# Altium integrated library TI Amplifiers and Linear Special Function Amplifier.IntLib: 708 symbols (part 38 of 47)
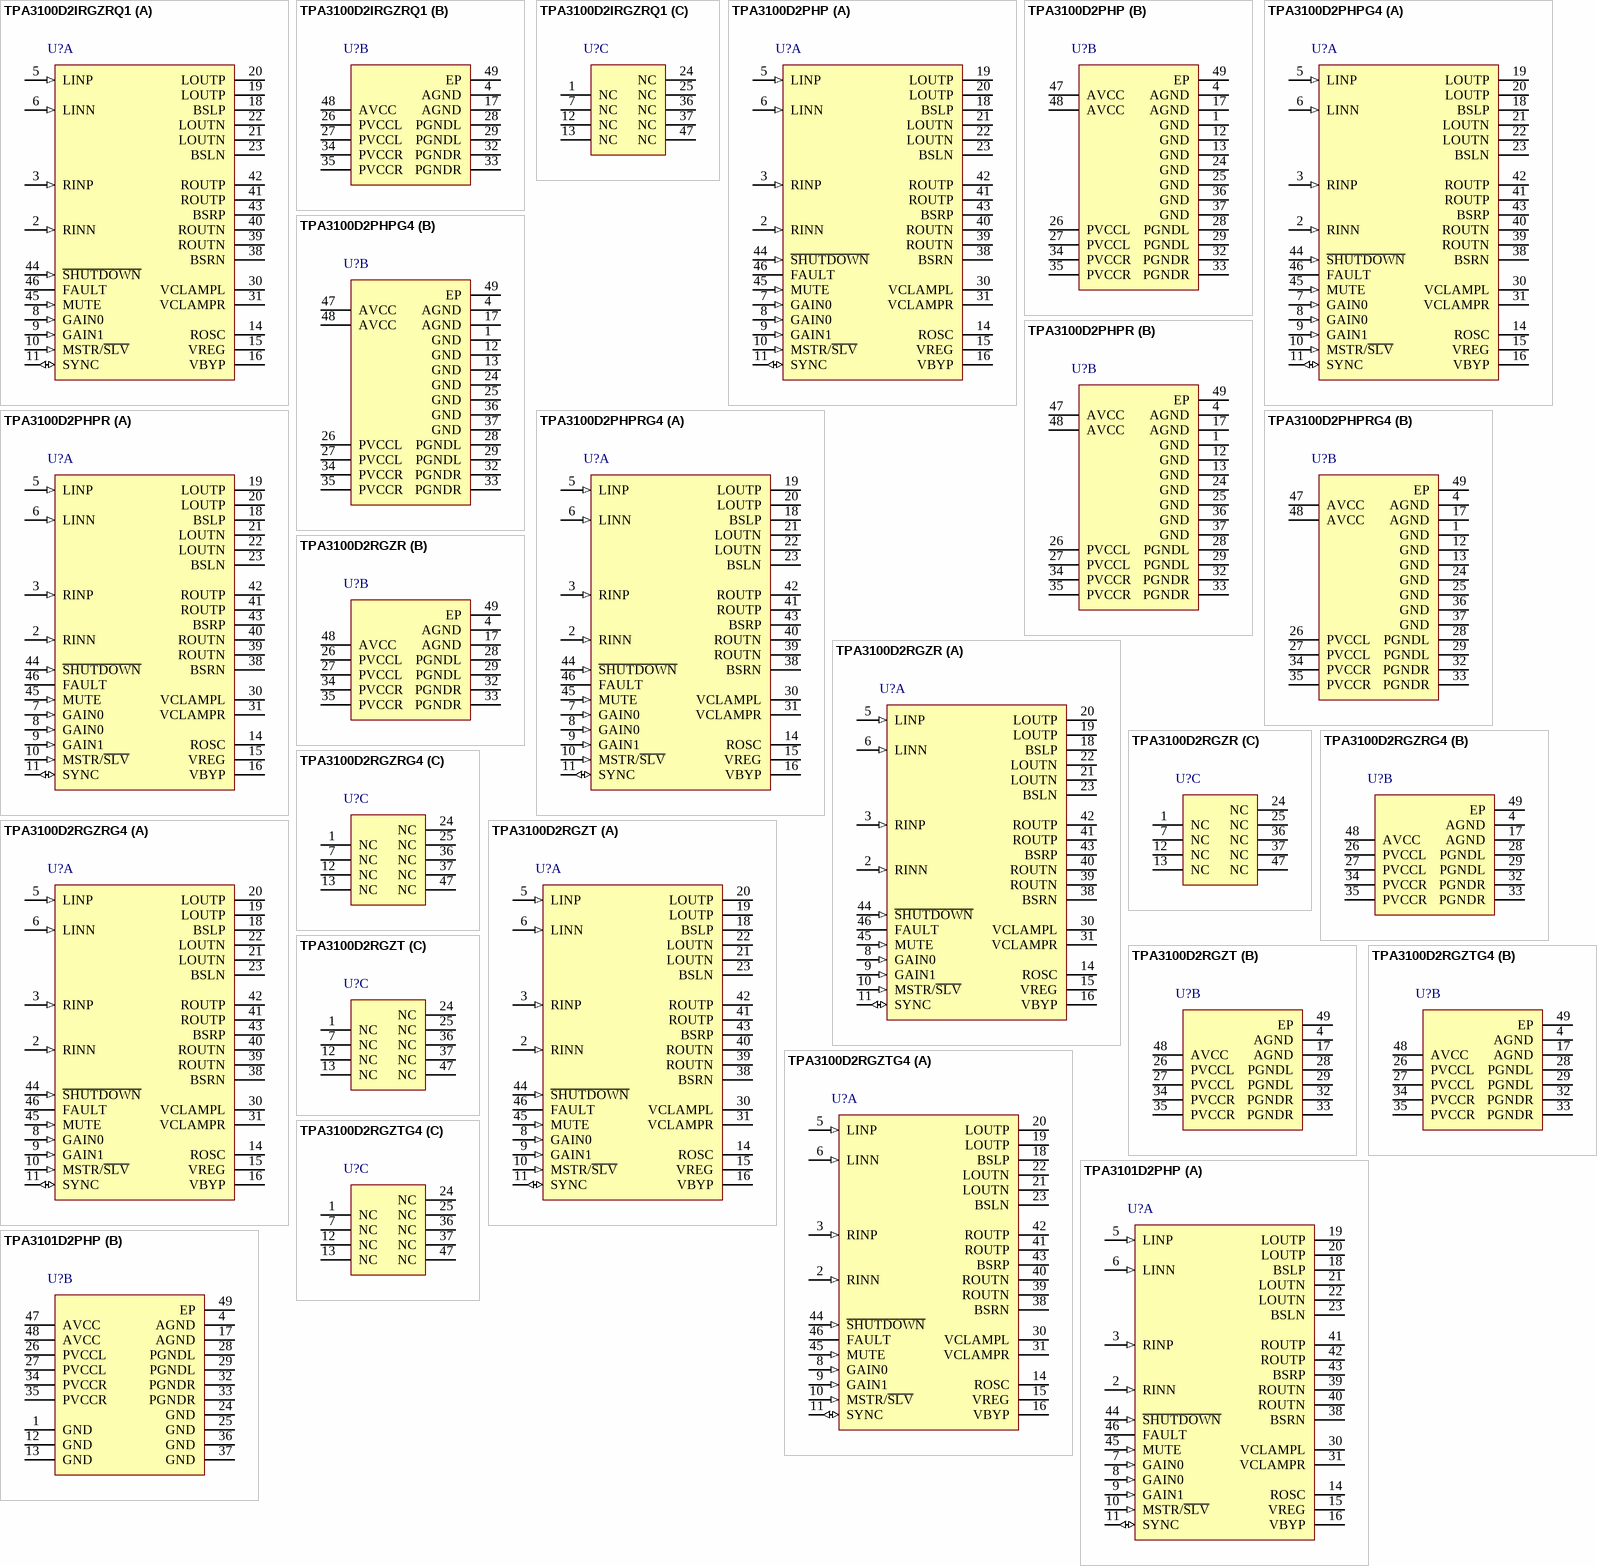
[diagram p76: symbols TPA3100D2IRGZRQ1 to TPA3101D2PHP]

## TPA3100D2RGZR
designator U?
20 W Stereo Class-D Audio Power Amplifier, -40 to 85 degC, 48-pin QFN (RGZ48), Green (RoHS & no Sb/Br); Manufacturer: Texas Instruments; PartNumber: TPA3100D2RGZR; Analog Supply Max [V]: 26; Analog Supply Min [V]: 10; Input Type: Analog; Max. Number of Speaker Outputs: 2; SubFamily: Mid/High-Power Amplifier; DatasheetVersion: SLOS469F; PackageVersion: 4204101/F, 06/2011; PackageReference: RGZ48-5150X5150TP; PackageDescription: 48-Pin Plastic Flat Pack, Body 7 x 7 mm, Pitch 0.5 mm; Supplier 1: Digi-Key; Supplier Part Number 1: 296-19423-2-ND; Supplier 2: Digi-Key; Supplier Part Number 2: 296-19423-1-ND; Supplier 3: Digi-Key; Supplier Part Number 3: 296-19423-6-ND; Supplier 4: Newark; Supplier Part Number 4: 72K0966; Supplier 5: Mouser; Supplier Part Number 5: 595-TPA3100D2RGZR; Eco-Plan: Green (RoHS & no Sb/Br); Power Stage Supply Min(V): 10; Mounting Technology: Surface Mount; Code_JEDEC: MO-220; ComponentLink1Description: Manufacturer URL; ComponentLink1URL: http://www.ti.com/; ComponentLink2Description: Datasheet; ComponentLink2URL: http://www.ti.com/general/docs/lit/getliterature.tsp?genericPartNumber=TPA3100D2&fileType=pdf; ComponentLink3Description: Package Specification; ComponentLink3URL: http://www.ti.com/lit/ml/mpqf123e/mpqf123e.pdf
footprint TI-RGZ48-5150X5150TP_V (QFN, 48-Leads, Body 7x7mm, Pitch 0.5mm, Thermal Pad 5.15x5.15mm, TI Recommended)
part A pins: 2 RINN (in) "Negative audio input for right channel. Biased at VREG/2.", 3 RINP (in) "Positive audio input for right channel. Biased at VREG/2.", 5 LINP (in) "Positive audio input for left channel. Biased at VREG/2.", 6 LINN (in) "Negative audio input for left channel. Biased at VREG/2.", 8 GAIN0 (in) "Gain select least significant bit. TTL logic levels with compliance to VREG.", 9 GAIN1 (in) "Gain select most significant bit. TTL logic levels with compliance to VREG.", 10 MSTR/~{SLV} (in) "Master/Slave select for determining direction of SYNC terminal. HIGH=Master mode, SYNC terminal is an output; LOW = slave mode, SYNC terminal accepts a clock input. TTL logic levels with compliance to VREG.", 11 SYNC (io) "Clock input/output for synchronizing multiple class-D devices. Direction determined by MSTR/S\L\V\ terminal. Input signal not to exceed VREG.", 14 ROSC "I/O for current setting resistor of ramp generator.", 15 VREG "4-V regulated output for use by internal cells, GAINx, MUTE, and MSTR/SLV pins only. Not specified for driving other external circuitry.", 16 VBYP "Reference for preamplifier. Nominally equal to 1.25 V. Also controls start-up time via external capacitor sizing.", 18 BSLP "Bootstrap I/O for left channel, positive high-side FET.", 19 LOUTP (hiz) "Class-D 1/2-H-bridge positive output for left channel.", 20 LOUTP (hiz) "Class-D 1/2-H-bridge positive output for left channel.", 21 LOUTN (hiz) "Class-D 1/2-H-bridge negative output for left channel.", 22 LOUTN (hiz) "Class-D 1/2-H-bridge negative output for left channel.", 23 BSLN "Bootstrap I/O for left channel, negative high-side FET.", 30 VCLAMPL "Internally generated voltage supply for left channel bootstrap capacitor.", 31 VCLAMPR "Internally generated voltage supply for right channel bootstrap capacitor.", 38 BSRN "Bootstrap I/O for right channel, negative high-side FET.", 39 ROUTN (hiz) "Class-D 1/2-H-bridge negative output for right channel.", 40 ROUTN (hiz) "Class-D 1/2-H-bridge negative output for right channel.", 41 ROUTP (hiz) "Class-D 1/2-H-bridge positive output for right channel.", 42 ROUTP (hiz) "Class-D 1/2-H-bridge positive output for right channel.", 43 BSRP "Bootstrap I/O for right channel, positive high-side FET.", 44 ~{SHUTDOWN} (in) "Shutdown signal for IC (LOW = disabled, HIGH = operational). TTL logic levels with compliance to AVCC.", 45 MUTE (in) "Mute signal for quick disable/enable of outputs (HIGH = outputs high-Z, LOW = outputs enabled). TTL logic levels with compliance to AVCC.", 46 FAULT (hiz) "TTL compatible output. HIGH = short-circuit fault. LOW = no fault. Only reports short-circuit faults. Thermal faults are not reported on this terminal."
part B pins: 4 AGND (power) "Analog ground for digital/analog cells in core.", 17 AGND (power) "Analog ground for digital/analog cells in core.", 26 PVCCL (power) "Power supply for left channel H-bridge, not internally connected to PVCCR or AVCC.", 27 PVCCL (power) "Power supply for left channel H-bridge, not internally connected to PVCCR or AVCC.", 28 PGNDL (power) "Power ground for left channel H-bridge.", 29 PGNDL (power) "Power ground for left channel H-bridge.", 32 PGNDR (power) "Power ground for right channel H-bridge.", 33 PGNDR (power) "Power ground for right channel H-bridge.", 34 PVCCR (power) "Power supply for right channel H-bridge, not connected to PVCCL or AVCC.", 35 PVCCR (power) "Power supply for right channel H-bridge, not connected to PVCCL or AVCC.", 48 AVCC (power) "High-voltage analog power supply. Not internally connected to PVCCR or PVCCL.", 49 EP (power) "Connect to AGND and PGND. Should be star point for both grounds. Internal resistive connection to AGND and PGND. Thermal vias on the PCB should connect this pad to a large copper area on an internal or bottom layer for the (See Datasheet)"
part C pins: 1 NC "No internal connection", 7 NC "No internal connection", 12 NC "No internal connection", 13 NC "No internal connection", 24 NC "No internal connection", 25 NC "No internal connection", 36 NC "No internal connection", 37 NC "No internal connection", 47 NC "No internal connection"

## TPA3100D2RGZRG4
designator U?
20 W Stereo Class-D Audio Power Amplifier, -40 to 85 degC, 48-pin QFN (RGZ48), Green (RoHS & no Sb/Br); Manufacturer: Texas Instruments; PartNumber: TPA3100D2RGZRG4; Analog Supply Max [V]: 26; Analog Supply Min [V]: 10; Input Type: Analog; Max. Number of Speaker Outputs: 2; SubFamily: Mid/High-Power Amplifier; DatasheetVersion: SLOS469F; PackageVersion: 4204101/F, 06/2011; PackageReference: RGZ48-5150X5150TP; PackageDescription: 48-Pin Plastic Flat Pack, Body 7 x 7 mm, Pitch 0.5 mm; Supplier 1: Digi-Key; Supplier Part Number 1: TPA3100D2RGZRG4-ND; Supplier 2: Mouser; Supplier Part Number 2: 595-TPA3100D2RGZRG4; Eco-Plan: Green (RoHS & no Sb/Br); Power Stage Supply Min(V): 10; Mounting Technology: Surface Mount; Code_JEDEC: MO-220; ComponentLink1Description: Manufacturer URL; ComponentLink1URL: http://www.ti.com/; ComponentLink2Description: Datasheet; ComponentLink2URL: http://www.ti.com/general/docs/lit/getliterature.tsp?genericPartNumber=TPA3100D2&fileType=pdf; ComponentLink3Description: Package Specification; ComponentLink3URL: http://www.ti.com/lit/ml/mpqf123e/mpqf123e.pdf
footprint TI-RGZ48-5150X5150TP_V (QFN, 48-Leads, Body 7x7mm, Pitch 0.5mm, Thermal Pad 5.15x5.15mm, TI Recommended)
part A pins: 2 RINN (in) "Negative audio input for right channel. Biased at VREG/2.", 3 RINP (in) "Positive audio input for right channel. Biased at VREG/2.", 5 LINP (in) "Positive audio input for left channel. Biased at VREG/2.", 6 LINN (in) "Negative audio input for left channel. Biased at VREG/2.", 8 GAIN0 (in) "Gain select least significant bit. TTL logic levels with compliance to VREG.", 9 GAIN1 (in) "Gain select most significant bit. TTL logic levels with compliance to VREG.", 10 MSTR/~{SLV} (in) "Master/Slave select for determining direction of SYNC terminal. HIGH=Master mode, SYNC terminal is an output; LOW = slave mode, SYNC terminal accepts a clock input. TTL logic levels with compliance to VREG.", 11 SYNC (io) "Clock input/output for synchronizing multiple class-D devices. Direction determined by MSTR/S\L\V\ terminal. Input signal not to exceed VREG.", 14 ROSC "I/O for current setting resistor of ramp generator.", 15 VREG "4-V regulated output for use by internal cells, GAINx, MUTE, and MSTR/SLV pins only. Not specified for driving other external circuitry.", 16 VBYP "Reference for preamplifier. Nominally equal to 1.25 V. Also controls start-up time via external capacitor sizing.", 18 BSLP "Bootstrap I/O for left channel, positive high-side FET.", 19 LOUTP (hiz) "Class-D 1/2-H-bridge positive output for left channel.", 20 LOUTP (hiz) "Class-D 1/2-H-bridge positive output for left channel.", 21 LOUTN (hiz) "Class-D 1/2-H-bridge negative output for left channel.", 22 LOUTN (hiz) "Class-D 1/2-H-bridge negative output for left channel.", 23 BSLN "Bootstrap I/O for left channel, negative high-side FET.", 30 VCLAMPL "Internally generated voltage supply for left channel bootstrap capacitor.", 31 VCLAMPR "Internally generated voltage supply for right channel bootstrap capacitor.", 38 BSRN "Bootstrap I/O for right channel, negative high-side FET.", 39 ROUTN (hiz) "Class-D 1/2-H-bridge negative output for right channel.", 40 ROUTN (hiz) "Class-D 1/2-H-bridge negative output for right channel.", 41 ROUTP (hiz) "Class-D 1/2-H-bridge positive output for right channel.", 42 ROUTP (hiz) "Class-D 1/2-H-bridge positive output for right channel.", 43 BSRP "Bootstrap I/O for right channel, positive high-side FET.", 44 ~{SHUTDOWN} (in) "Shutdown signal for IC (LOW = disabled, HIGH = operational). TTL logic levels with compliance to AVCC.", 45 MUTE (in) "Mute signal for quick disable/enable of outputs (HIGH = outputs high-Z, LOW = outputs enabled). TTL logic levels with compliance to AVCC.", 46 FAULT (hiz) "TTL compatible output. HIGH = short-circuit fault. LOW = no fault. Only reports short-circuit faults. Thermal faults are not reported on this terminal."
part B pins: 4 AGND (power) "Analog ground for digital/analog cells in core.", 17 AGND (power) "Analog ground for digital/analog cells in core.", 26 PVCCL (power) "Power supply for left channel H-bridge, not internally connected to PVCCR or AVCC.", 27 PVCCL (power) "Power supply for left channel H-bridge, not internally connected to PVCCR or AVCC.", 28 PGNDL (power) "Power ground for left channel H-bridge.", 29 PGNDL (power) "Power ground for left channel H-bridge.", 32 PGNDR (power) "Power ground for right channel H-bridge.", 33 PGNDR (power) "Power ground for right channel H-bridge.", 34 PVCCR (power) "Power supply for right channel H-bridge, not connected to PVCCL or AVCC.", 35 PVCCR (power) "Power supply for right channel H-bridge, not connected to PVCCL or AVCC.", 48 AVCC (power) "High-voltage analog power supply. Not internally connected to PVCCR or PVCCL.", 49 EP (power) "Connect to AGND and PGND. Should be star point for both grounds. Internal resistive connection to AGND and PGND. Thermal vias on the PCB should connect this pad to a large copper area on an internal or bottom layer for the (See Datasheet)"
part C pins: 1 NC "No internal connection", 7 NC "No internal connection", 12 NC "No internal connection", 13 NC "No internal connection", 24 NC "No internal connection", 25 NC "No internal connection", 36 NC "No internal connection", 37 NC "No internal connection", 47 NC "No internal connection"

## TPA3100D2RGZT
designator U?
20 W Stereo Class-D Audio Power Amplifier, -40 to 85 degC, 48-pin QFN (RGZ48), Green (RoHS & no Sb/Br); Manufacturer: Texas Instruments; PartNumber: TPA3100D2RGZT; Analog Supply Max [V]: 26; Analog Supply Min [V]: 10; Input Type: Analog; Max. Number of Speaker Outputs: 2; SubFamily: Mid/High-Power Amplifier; DatasheetVersion: SLOS469F; PackageVersion: 4204101/F, 06/2011; PackageReference: RGZ48-5150X5150TP; PackageDescription: 48-Pin Plastic Flat Pack, Body 7 x 7 mm, Pitch 0.5 mm; Supplier 1: Digi-Key; Supplier Part Number 1: 296-26882-2-ND; Supplier 2: Digi-Key; Supplier Part Number 2: 296-26882-1-ND; Supplier 3: Digi-Key; Supplier Part Number 3: 296-26882-6-ND; Supplier 4: Mouser; Supplier Part Number 4: 595-TPA3100D2RGZT; Eco-Plan: Green (RoHS & no Sb/Br); Power Stage Supply Min(V): 10; Mounting Technology: Surface Mount; Code_JEDEC: MO-220; ComponentLink1Description: Manufacturer URL; ComponentLink1URL: http://www.ti.com/; ComponentLink2Description: Datasheet; ComponentLink2URL: http://www.ti.com/general/docs/lit/getliterature.tsp?genericPartNumber=TPA3100D2&fileType=pdf; ComponentLink3Description: Package Specification; ComponentLink3URL: http://www.ti.com/lit/ml/mpqf123e/mpqf123e.pdf
footprint TI-RGZ48-5150X5150TP_V (QFN, 48-Leads, Body 7x7mm, Pitch 0.5mm, Thermal Pad 5.15x5.15mm, TI Recommended)
part A pins: 2 RINN (in) "Negative audio input for right channel. Biased at VREG/2.", 3 RINP (in) "Positive audio input for right channel. Biased at VREG/2.", 5 LINP (in) "Positive audio input for left channel. Biased at VREG/2.", 6 LINN (in) "Negative audio input for left channel. Biased at VREG/2.", 8 GAIN0 (in) "Gain select least significant bit. TTL logic levels with compliance to VREG.", 9 GAIN1 (in) "Gain select most significant bit. TTL logic levels with compliance to VREG.", 10 MSTR/~{SLV} (in) "Master/Slave select for determining direction of SYNC terminal. HIGH=Master mode, SYNC terminal is an output; LOW = slave mode, SYNC terminal accepts a clock input. TTL logic levels with compliance to VREG.", 11 SYNC (io) "Clock input/output for synchronizing multiple class-D devices. Direction determined by MSTR/S\L\V\ terminal. Input signal not to exceed VREG.", 14 ROSC "I/O for current setting resistor of ramp generator.", 15 VREG "4-V regulated output for use by internal cells, GAINx, MUTE, and MSTR/SLV pins only. Not specified for driving other external circuitry.", 16 VBYP "Reference for preamplifier. Nominally equal to 1.25 V. Also controls start-up time via external capacitor sizing.", 18 BSLP "Bootstrap I/O for left channel, positive high-side FET.", 19 LOUTP (hiz) "Class-D 1/2-H-bridge positive output for left channel.", 20 LOUTP (hiz) "Class-D 1/2-H-bridge positive output for left channel.", 21 LOUTN (hiz) "Class-D 1/2-H-bridge negative output for left channel.", 22 LOUTN (hiz) "Class-D 1/2-H-bridge negative output for left channel.", 23 BSLN "Bootstrap I/O for left channel, negative high-side FET.", 30 VCLAMPL "Internally generated voltage supply for left channel bootstrap capacitor.", 31 VCLAMPR "Internally generated voltage supply for right channel bootstrap capacitor.", 38 BSRN "Bootstrap I/O for right channel, negative high-side FET.", 39 ROUTN (hiz) "Class-D 1/2-H-bridge negative output for right channel.", 40 ROUTN (hiz) "Class-D 1/2-H-bridge negative output for right channel.", 41 ROUTP (hiz) "Class-D 1/2-H-bridge positive output for right channel.", 42 ROUTP (hiz) "Class-D 1/2-H-bridge positive output for right channel.", 43 BSRP "Bootstrap I/O for right channel, positive high-side FET.", 44 ~{SHUTDOWN} (in) "Shutdown signal for IC (LOW = disabled, HIGH = operational). TTL logic levels with compliance to AVCC.", 45 MUTE (in) "Mute signal for quick disable/enable of outputs (HIGH = outputs high-Z, LOW = outputs enabled). TTL logic levels with compliance to AVCC.", 46 FAULT (hiz) "TTL compatible output. HIGH = short-circuit fault. LOW = no fault. Only reports short-circuit faults. Thermal faults are not reported on this terminal."
part B pins: 4 AGND (power) "Analog ground for digital/analog cells in core.", 17 AGND (power) "Analog ground for digital/analog cells in core.", 26 PVCCL (power) "Power supply for left channel H-bridge, not internally connected to PVCCR or AVCC.", 27 PVCCL (power) "Power supply for left channel H-bridge, not internally connected to PVCCR or AVCC.", 28 PGNDL (power) "Power ground for left channel H-bridge.", 29 PGNDL (power) "Power ground for left channel H-bridge.", 32 PGNDR (power) "Power ground for right channel H-bridge.", 33 PGNDR (power) "Power ground for right channel H-bridge.", 34 PVCCR (power) "Power supply for right channel H-bridge, not connected to PVCCL or AVCC.", 35 PVCCR (power) "Power supply for right channel H-bridge, not connected to PVCCL or AVCC.", 48 AVCC (power) "High-voltage analog power supply. Not internally connected to PVCCR or PVCCL.", 49 EP (power) "Connect to AGND and PGND. Should be star point for both grounds. Internal resistive connection to AGND and PGND. Thermal vias on the PCB should connect this pad to a large copper area on an internal or bottom layer for the (See Datasheet)"
part C pins: 1 NC "No internal connection", 7 NC "No internal connection", 12 NC "No internal connection", 13 NC "No internal connection", 24 NC "No internal connection", 25 NC "No internal connection", 36 NC "No internal connection", 37 NC "No internal connection", 47 NC "No internal connection"

## TPA3100D2RGZTG4
designator U?
20 W Stereo Class-D Audio Power Amplifier, -40 to 85 degC, 48-pin QFN (RGZ48), Green (RoHS & no Sb/Br); Manufacturer: Texas Instruments; PartNumber: TPA3100D2RGZTG4; Analog Supply Max [V]: 26; Analog Supply Min [V]: 10; Input Type: Analog; Max. Number of Speaker Outputs: 2; SubFamily: Mid/High-Power Amplifier; DatasheetVersion: SLOS469F; PackageVersion: 4204101/F, 06/2011; PackageReference: RGZ48-5150X5150TP; PackageDescription: 48-Pin Plastic Flat Pack, Body 7 x 7 mm, Pitch 0.5 mm; Supplier 1: Digi-Key; Supplier Part Number 1: TPA3100D2RGZTG4-ND; Supplier 2: Mouser; Supplier Part Number 2: 595-TPA3100D2RGZTG4; Eco-Plan: Green (RoHS & no Sb/Br); Power Stage Supply Min(V): 10; Mounting Technology: Surface Mount; Code_JEDEC: MO-220; ComponentLink1Description: Manufacturer URL; ComponentLink1URL: http://www.ti.com/; ComponentLink2Description: Datasheet; ComponentLink2URL: http://www.ti.com/general/docs/lit/getliterature.tsp?genericPartNumber=TPA3100D2&fileType=pdf; ComponentLink3Description: Package Specification; ComponentLink3URL: http://www.ti.com/lit/ml/mpqf123e/mpqf123e.pdf
footprint TI-RGZ48-5150X5150TP_V (QFN, 48-Leads, Body 7x7mm, Pitch 0.5mm, Thermal Pad 5.15x5.15mm, TI Recommended)
part A pins: 2 RINN (in) "Negative audio input for right channel. Biased at VREG/2.", 3 RINP (in) "Positive audio input for right channel. Biased at VREG/2.", 5 LINP (in) "Positive audio input for left channel. Biased at VREG/2.", 6 LINN (in) "Negative audio input for left channel. Biased at VREG/2.", 8 GAIN0 (in) "Gain select least significant bit. TTL logic levels with compliance to VREG.", 9 GAIN1 (in) "Gain select most significant bit. TTL logic levels with compliance to VREG.", 10 MSTR/~{SLV} (in) "Master/Slave select for determining direction of SYNC terminal. HIGH=Master mode, SYNC terminal is an output; LOW = slave mode, SYNC terminal accepts a clock input. TTL logic levels with compliance to VREG.", 11 SYNC (io) "Clock input/output for synchronizing multiple class-D devices. Direction determined by MSTR/S\L\V\ terminal. Input signal not to exceed VREG.", 14 ROSC "I/O for current setting resistor of ramp generator.", 15 VREG "4-V regulated output for use by internal cells, GAINx, MUTE, and MSTR/SLV pins only. Not specified for driving other external circuitry.", 16 VBYP "Reference for preamplifier. Nominally equal to 1.25 V. Also controls start-up time via external capacitor sizing.", 18 BSLP "Bootstrap I/O for left channel, positive high-side FET.", 19 LOUTP (hiz) "Class-D 1/2-H-bridge positive output for left channel.", 20 LOUTP (hiz) "Class-D 1/2-H-bridge positive output for left channel.", 21 LOUTN (hiz) "Class-D 1/2-H-bridge negative output for left channel.", 22 LOUTN (hiz) "Class-D 1/2-H-bridge negative output for left channel.", 23 BSLN "Bootstrap I/O for left channel, negative high-side FET.", 30 VCLAMPL "Internally generated voltage supply for left channel bootstrap capacitor.", 31 VCLAMPR "Internally generated voltage supply for right channel bootstrap capacitor.", 38 BSRN "Bootstrap I/O for right channel, negative high-side FET.", 39 ROUTN (hiz) "Class-D 1/2-H-bridge negative output for right channel.", 40 ROUTN (hiz) "Class-D 1/2-H-bridge negative output for right channel.", 41 ROUTP (hiz) "Class-D 1/2-H-bridge positive output for right channel.", 42 ROUTP (hiz) "Class-D 1/2-H-bridge positive output for right channel.", 43 BSRP "Bootstrap I/O for right channel, positive high-side FET.", 44 ~{SHUTDOWN} (in) "Shutdown signal for IC (LOW = disabled, HIGH = operational). TTL logic levels with compliance to AVCC.", 45 MUTE (in) "Mute signal for quick disable/enable of outputs (HIGH = outputs high-Z, LOW = outputs enabled). TTL logic levels with compliance to AVCC.", 46 FAULT (hiz) "TTL compatible output. HIGH = short-circuit fault. LOW = no fault. Only reports short-circuit faults. Thermal faults are not reported on this terminal."
part B pins: 4 AGND (power) "Analog ground for digital/analog cells in core.", 17 AGND (power) "Analog ground for digital/analog cells in core.", 26 PVCCL (power) "Power supply for left channel H-bridge, not internally connected to PVCCR or AVCC.", 27 PVCCL (power) "Power supply for left channel H-bridge, not internally connected to PVCCR or AVCC.", 28 PGNDL (power) "Power ground for left channel H-bridge.", 29 PGNDL (power) "Power ground for left channel H-bridge.", 32 PGNDR (power) "Power ground for right channel H-bridge.", 33 PGNDR (power) "Power ground for right channel H-bridge.", 34 PVCCR (power) "Power supply for right channel H-bridge, not connected to PVCCL or AVCC.", 35 PVCCR (power) "Power supply for right channel H-bridge, not connected to PVCCL or AVCC.", 48 AVCC (power) "High-voltage analog power supply. Not internally connected to PVCCR or PVCCL.", 49 EP (power) "Connect to AGND and PGND. Should be star point for both grounds. Internal resistive connection to AGND and PGND. Thermal vias on the PCB should connect this pad to a large copper area on an internal or bottom layer for the (See Datasheet)"
part C pins: 1 NC "No internal connection", 7 NC "No internal connection", 12 NC "No internal connection", 13 NC "No internal connection", 24 NC "No internal connection", 25 NC "No internal connection", 36 NC "No internal connection", 37 NC "No internal connection", 47 NC "No internal connection"

## TPA3101D2PHP
designator U?
10 W Stereo Class-D Audio Power Amplifier, -40 to 85 degC, 48-pin QFP (PHP48), Green (RoHS & no Sb/Br); Manufacturer: Texas Instruments; PartNumber: TPA3101D2PHP; Analog Supply Max [V]: 26; Analog Supply Min [V]: 10; Input Type: Analog; Max. Number of Speaker Outputs: 2; SubFamily: Mid/High-Power Amplifier; DatasheetVersion: SLOS473C; PackageVersion: 4146927/B, 08/2003; PackageReference: PHP48-4520X4520TP; PackageDescription: 48-Pin PowerPAD(TM) Plastic Quad Flatpack, Body 7 x 7 mm, Pitch 0.5 mm; Supplier 1: Digi-Key; Supplier Part Number 1: 296-19554-ND; Supplier 2: Digi-Key; Supplier Part Number 2: 296-19554-2-ND; Supplier 3: Digi-Key; Supplier Part Number 3: 296-19554-6-ND; Supplier 4: Newark; Supplier Part Number 4: 80K3364; Supplier 5: Mouser; Supplier Part Number 5: 595-TPA3101D2PHP; Eco-Plan: Green (RoHS & no Sb/Br); Power Stage Supply Min(V): 10; Mounting Technology: Surface Mount; Code_JEDEC: MS-026; ComponentLink1Description: Manufacturer URL; ComponentLink1URL: http://www.ti.com/; ComponentLink2Description: Datasheet; ComponentLink2URL: http://www.ti.com/general/docs/lit/getliterature.tsp?genericPartNumber=TPA3101D2&fileType=pdf; ComponentLink3Description: Package Specification; ComponentLink3URL: http://www.ti.com/litv/pdf/mpqf051a
footprint TI-PHP48-4520X4520TP_N (QFP, 48-Leads, Body 7x7mm, Pitch 0.5mm, Thermal Pad 5.14x5.14mm, IPC Medium Density)
footprint TI-PHP48-4520X4520TP_L (QFP, 48-Leads, Body 7x7mm, Pitch 0.5mm, Thermal Pad 5.14x5.14mm, IPC High Density)
footprint TI-PHP48-4520X4520TP_M (QFP, 48-Leads, Body 7x7mm, Pitch 0.5mm, Thermal Pad 5.14x5.14mm, IPC Low Density)
part A pins: 2 RINN (in) "Negative audio input for right channel. Biased at VREG/2.", 3 RINP (in) "Positive audio input for right channel. Biased at VREG/2.", 5 LINP (in) "Positive audio input for left channel. Biased at VREG/2.", 6 LINN (in) "Negative audio input for left channel. Biased at VREG/2.", 7 GAIN0 (in) "Gain select least significant bit. TTL logic levels with compliance to VREG.", 8 GAIN0 (in) "Gain select least significant bit. TTL logic levels with compliance to VREG.", 9 GAIN1 (in) "Gain select least significant bit. TTL logic levels with compliance to VREG.", 10 MSTR/~{SLV} (in) "Master/Slave select for determining direction of SYNC terminal.HIGH=Master mode, SYNC terminal is an output; LOW = slave mode, SYNC terminal accepts a clock input. TTL logic levels with compliance to VREG.", 11 SYNC (io) "Clock input/output for synchronizing multiple class-D devices. Direction determined by MSTR/S\L\V\ terminal. Input signal not to exceed VREG", 14 ROSC "I/O for current setting resistor of ramp generator", 15 VREG "4-V regulated output for use by internal cells, GAINx, MUTE, and MSTR/S\L\V\ pins only. Not specified for driving other external circuitry.", 16 VBYP "Reference for preamplifier. Nominally equal to 1.25 V. Also controls start-up time via external capacitor sizing.", 18 BSLP "Bootstrap I/O for left channel, positive high-side FET.", 19 LOUTP (hiz) "Class-D 1/2-H-bridge positive output for left channel.", 20 LOUTP (hiz) "Class-D 1/2-H-bridge positive output for left channel.", 21 LOUTN (hiz) "Class-D 1/2-H-bridge negative output for left channel.", 22 LOUTN (hiz) "Class-D 1/2-H-bridge negative output for left channel.", 23 BSLN "Bootstrap I/O for left channel, negative high-side FET.", 30 VCLAMPL "Internally generated voltage supply for left channel bootstrap capacitor.", 31 VCLAMPR "Internally generated voltage supply for right channel bootstrap capacitor.", 38 BSRN "Bootstrap I/O for right channel, negative high-side FET.", 39 ROUTN (hiz) "Class-D 1/2-H-bridge negative output for right channel.", 40 ROUTN (hiz) "Class-D 1/2-H-bridge negative output for right channel.", 41 ROUTP (hiz) "Class-D 1/2-H-bridge positive output for right channel", 42 ROUTP (hiz) "Class-D 1/2-H-bridge positive output for right channel", 43 BSRP "Bootstrap I/O for right channel, positive high-side FET.", 44 ~{SHUTDOWN} (in) "Shutdown signal for IC (LOW = disabled, HIGH = operational). TTL logic levels with compliance to AVCC.", 45 MUTE (in) "Mute signal for quick disable/enable of outputs (HIGH = outputs high-Z, LOW = outputs enabled). TTL logic levels with compliance to AVCC.", 46 FAULT (hiz) "TTL compatible output. HIGH = short-circuit fault. LOW = no fault. Only reports short-circuit faults. Thermal faults are not reported on this terminal."
part B pins: 1 GND (power) "Connect to the thermal pad.", 4 AGND (power) "Analog ground for digital/analog cells in core.", 12 GND (power) "Connect to the thermal pad.", 13 GND (power) "Connect to the thermal pad.", 17 AGND (power) "Analog ground for digital/analog cells in core.", 24 GND (power) "Connect to the thermal pad.", 25 GND (power) "Connect to the thermal pad.", 26 PVCCL (power) "Power supply for left channel H-bridge, not internally connected to PVCCR or AVCC.", 27 PVCCL (power) "Power supply for left channel H-bridge, not internally connected to PVCCR or AVCC.", 28 PGNDL (power) "Power ground for left channel H-bridge.", 29 PGNDL (power) "Power ground for left channel H-bridge.", 32 PGNDR (power) "Power ground for right channel H-bridge.", 33 PGNDR (power) "Power ground for right channel H-bridge.", 34 PVCCR (power) "Power supply for right channel H-bridge, not connected to PVCCL or AVCC", 35 PVCCR (power) "Power supply for right channel H-bridge, not connected to PVCCL or AVCC", 36 GND (power) "Connect to the thermal pad.", 37 GND (power) "Connect to the thermal pad.", 47 AVCC (power) "High-voltage analog power supply. Not internally connected to PVCCR or PVCCL.", 48 AVCC (power) "High-voltage analog power supply. Not internally connected to PVCCR or PVCCL.", 49 EP (power) "Connect to AGND and PGND - should be star point for both grounds. Internal resistive connection to AGND and PGND. Thermal vias on the PCB should connect this pad to a large copper area on an internal or bottom layer for the (See Datasheet)"

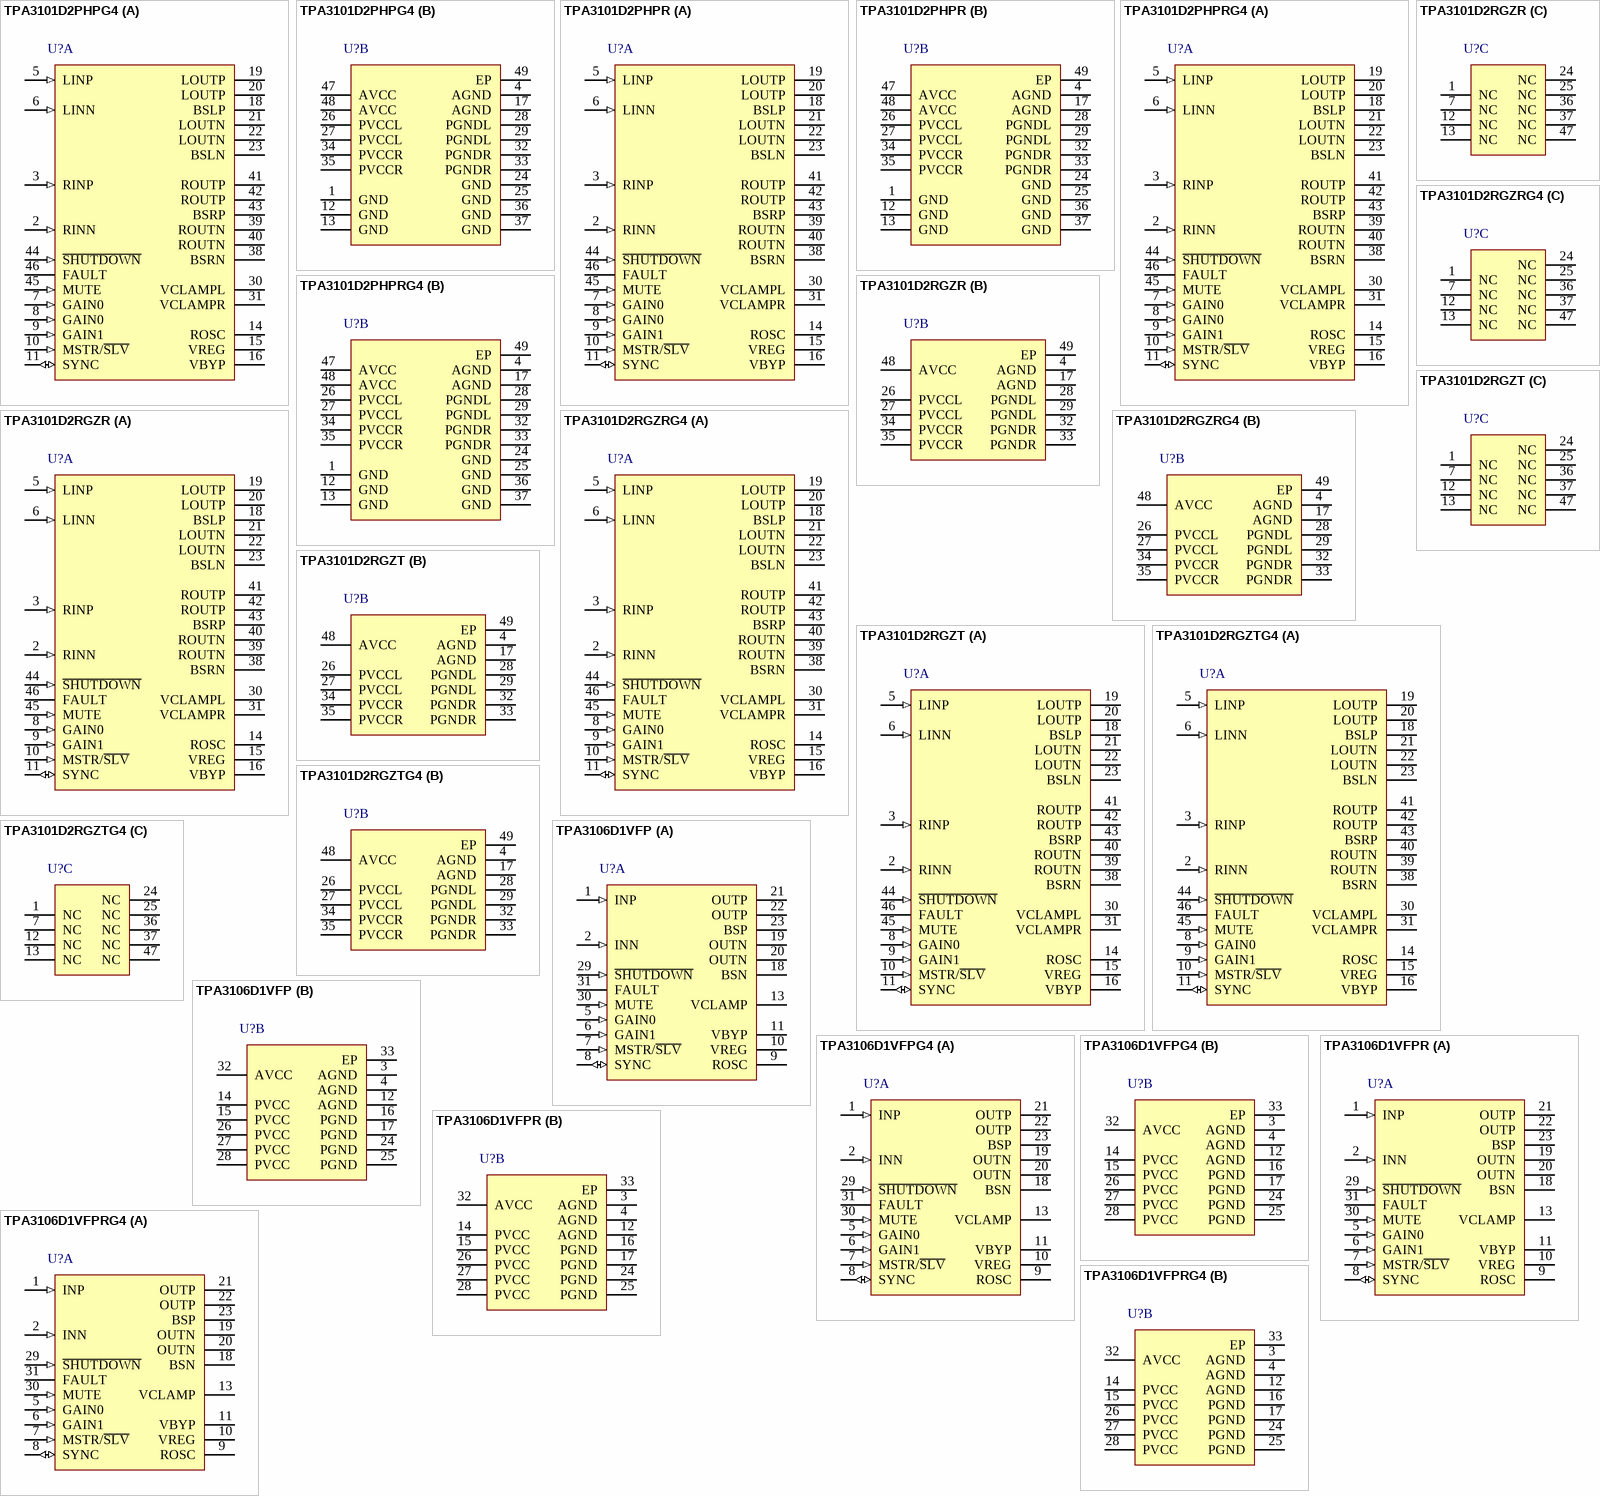
[diagram p33: symbols TPA3101D2PHPG4 to TPA3106D1VFPRG4]

## TPA3101D2PHPG4
designator U?
10 W Stereo Class-D Audio Power Amplifier, -40 to 85 degC, 48-pin QFP (PHP48), Green (RoHS & no Sb/Br); Manufacturer: Texas Instruments; PartNumber: TPA3101D2PHPG4; Analog Supply Max [V]: 26; Analog Supply Min [V]: 10; Input Type: Analog; Max. Number of Speaker Outputs: 2; SubFamily: Mid/High-Power Amplifier; DatasheetVersion: SLOS473C; PackageVersion: 4146927/B, 08/2003; PackageReference: PHP48-4520X4520TP; PackageDescription: 48-Pin PowerPAD(TM) Plastic Quad Flatpack, Body 7 x 7 mm, Pitch 0.5 mm; Supplier 1: Digi-Key; Supplier Part Number 1: TPA3101D2PHPG4-ND; Supplier 2: Mouser; Supplier Part Number 2: 595-TPA3101D2PHPG4; Eco-Plan: Green (RoHS & no Sb/Br); Power Stage Supply Min(V): 10; Mounting Technology: Surface Mount; Code_JEDEC: MS-026; ComponentLink1Description: Manufacturer URL; ComponentLink1URL: http://www.ti.com/; ComponentLink2Description: Datasheet; ComponentLink2URL: http://www.ti.com/general/docs/lit/getliterature.tsp?genericPartNumber=TPA3101D2&fileType=pdf; ComponentLink3Description: Package Specification; ComponentLink3URL: http://www.ti.com/litv/pdf/mpqf051a
footprint TI-PHP48-4520X4520TP_N (QFP, 48-Leads, Body 7x7mm, Pitch 0.5mm, Thermal Pad 5.14x5.14mm, IPC Medium Density)
footprint TI-PHP48-4520X4520TP_L (QFP, 48-Leads, Body 7x7mm, Pitch 0.5mm, Thermal Pad 5.14x5.14mm, IPC High Density)
footprint TI-PHP48-4520X4520TP_M (QFP, 48-Leads, Body 7x7mm, Pitch 0.5mm, Thermal Pad 5.14x5.14mm, IPC Low Density)
part A pins: 2 RINN (in) "Negative audio input for right channel. Biased at VREG/2.", 3 RINP (in) "Positive audio input for right channel. Biased at VREG/2.", 5 LINP (in) "Positive audio input for left channel. Biased at VREG/2.", 6 LINN (in) "Negative audio input for left channel. Biased at VREG/2.", 7 GAIN0 (in) "Gain select least significant bit. TTL logic levels with compliance to VREG.", 8 GAIN0 (in) "Gain select least significant bit. TTL logic levels with compliance to VREG.", 9 GAIN1 (in) "Gain select least significant bit. TTL logic levels with compliance to VREG.", 10 MSTR/~{SLV} (in) "Master/Slave select for determining direction of SYNC terminal.HIGH=Master mode, SYNC terminal is an output; LOW = slave mode, SYNC terminal accepts a clock input. TTL logic levels with compliance to VREG.", 11 SYNC (io) "Clock input/output for synchronizing multiple class-D devices. Direction determined by MSTR/S\L\V\ terminal. Input signal not to exceed VREG", 14 ROSC "I/O for current setting resistor of ramp generator", 15 VREG "4-V regulated output for use by internal cells, GAINx, MUTE, and MSTR/S\L\V\ pins only. Not specified for driving other external circuitry.", 16 VBYP "Reference for preamplifier. Nominally equal to 1.25 V. Also controls start-up time via external capacitor sizing.", 18 BSLP "Bootstrap I/O for left channel, positive high-side FET.", 19 LOUTP (hiz) "Class-D 1/2-H-bridge positive output for left channel.", 20 LOUTP (hiz) "Class-D 1/2-H-bridge positive output for left channel.", 21 LOUTN (hiz) "Class-D 1/2-H-bridge negative output for left channel.", 22 LOUTN (hiz) "Class-D 1/2-H-bridge negative output for left channel.", 23 BSLN "Bootstrap I/O for left channel, negative high-side FET.", 30 VCLAMPL "Internally generated voltage supply for left channel bootstrap capacitor.", 31 VCLAMPR "Internally generated voltage supply for right channel bootstrap capacitor.", 38 BSRN "Bootstrap I/O for right channel, negative high-side FET.", 39 ROUTN (hiz) "Class-D 1/2-H-bridge negative output for right channel.", 40 ROUTN (hiz) "Class-D 1/2-H-bridge negative output for right channel.", 41 ROUTP (hiz) "Class-D 1/2-H-bridge positive output for right channel", 42 ROUTP (hiz) "Class-D 1/2-H-bridge positive output for right channel", 43 BSRP "Bootstrap I/O for right channel, positive high-side FET.", 44 ~{SHUTDOWN} (in) "Shutdown signal for IC (LOW = disabled, HIGH = operational). TTL logic levels with compliance to AVCC.", 45 MUTE (in) "Mute signal for quick disable/enable of outputs (HIGH = outputs high-Z, LOW = outputs enabled). TTL logic levels with compliance to AVCC.", 46 FAULT (hiz) "TTL compatible output. HIGH = short-circuit fault. LOW = no fault. Only reports short-circuit faults. Thermal faults are not reported on this terminal."
part B pins: 1 GND (power) "Connect to the thermal pad.", 4 AGND (power) "Analog ground for digital/analog cells in core.", 12 GND (power) "Connect to the thermal pad.", 13 GND (power) "Connect to the thermal pad.", 17 AGND (power) "Analog ground for digital/analog cells in core.", 24 GND (power) "Connect to the thermal pad.", 25 GND (power) "Connect to the thermal pad.", 26 PVCCL (power) "Power supply for left channel H-bridge, not internally connected to PVCCR or AVCC.", 27 PVCCL (power) "Power supply for left channel H-bridge, not internally connected to PVCCR or AVCC.", 28 PGNDL (power) "Power ground for left channel H-bridge.", 29 PGNDL (power) "Power ground for left channel H-bridge.", 32 PGNDR (power) "Power ground for right channel H-bridge.", 33 PGNDR (power) "Power ground for right channel H-bridge.", 34 PVCCR (power) "Power supply for right channel H-bridge, not connected to PVCCL or AVCC", 35 PVCCR (power) "Power supply for right channel H-bridge, not connected to PVCCL or AVCC", 36 GND (power) "Connect to the thermal pad.", 37 GND (power) "Connect to the thermal pad.", 47 AVCC (power) "High-voltage analog power supply. Not internally connected to PVCCR or PVCCL.", 48 AVCC (power) "High-voltage analog power supply. Not internally connected to PVCCR or PVCCL.", 49 EP (power) "Connect to AGND and PGND - should be star point for both grounds. Internal resistive connection to AGND and PGND. Thermal vias on the PCB should connect this pad to a large copper area on an internal or bottom layer for the (See Datasheet)"

## TPA3101D2PHPR
designator U?
10 W Stereo Class-D Audio Power Amplifier, -40 to 85 degC, 48-pin QFP (PHP48), Green (RoHS & no Sb/Br); Manufacturer: Texas Instruments; PartNumber: TPA3101D2PHPR; Analog Supply Max [V]: 26; Analog Supply Min [V]: 10; Input Type: Analog; Max. Number of Speaker Outputs: 2; SubFamily: Mid/High-Power Amplifier; DatasheetVersion: SLOS473C; PackageVersion: 4146927/B, 08/2003; PackageReference: PHP48-4520X4520TP; PackageDescription: 48-Pin PowerPAD(TM) Plastic Quad Flatpack, Body 7 x 7 mm, Pitch 0.5 mm; Supplier 1: Digi-Key; Supplier Part Number 1: 296-26883-2-ND; Supplier 2: Digi-Key; Supplier Part Number 2: 296-26883-1-ND; Supplier 3: Digi-Key; Supplier Part Number 3: 296-26883-6-ND; Supplier 4: Mouser; Supplier Part Number 4: 595-TPA3101D2PHPR; Eco-Plan: Green (RoHS & no Sb/Br); Power Stage Supply Min(V): 10; Mounting Technology: Surface Mount; Code_JEDEC: MS-026; ComponentLink1Description: Manufacturer URL; ComponentLink1URL: http://www.ti.com/; ComponentLink2Description: Datasheet; ComponentLink2URL: http://www.ti.com/general/docs/lit/getliterature.tsp?genericPartNumber=TPA3101D2&fileType=pdf; ComponentLink3Description: Package Specification; ComponentLink3URL: http://www.ti.com/litv/pdf/mpqf051a
footprint TI-PHP48-4520X4520TP_N (QFP, 48-Leads, Body 7x7mm, Pitch 0.5mm, Thermal Pad 5.14x5.14mm, IPC Medium Density)
footprint TI-PHP48-4520X4520TP_L (QFP, 48-Leads, Body 7x7mm, Pitch 0.5mm, Thermal Pad 5.14x5.14mm, IPC High Density)
footprint TI-PHP48-4520X4520TP_M (QFP, 48-Leads, Body 7x7mm, Pitch 0.5mm, Thermal Pad 5.14x5.14mm, IPC Low Density)
part A pins: 2 RINN (in) "Negative audio input for right channel. Biased at VREG/2.", 3 RINP (in) "Positive audio input for right channel. Biased at VREG/2.", 5 LINP (in) "Positive audio input for left channel. Biased at VREG/2.", 6 LINN (in) "Negative audio input for left channel. Biased at VREG/2.", 7 GAIN0 (in) "Gain select least significant bit. TTL logic levels with compliance to VREG.", 8 GAIN0 (in) "Gain select least significant bit. TTL logic levels with compliance to VREG.", 9 GAIN1 (in) "Gain select least significant bit. TTL logic levels with compliance to VREG.", 10 MSTR/~{SLV} (in) "Master/Slave select for determining direction of SYNC terminal.HIGH=Master mode, SYNC terminal is an output; LOW = slave mode, SYNC terminal accepts a clock input. TTL logic levels with compliance to VREG.", 11 SYNC (io) "Clock input/output for synchronizing multiple class-D devices. Direction determined by MSTR/S\L\V\ terminal. Input signal not to exceed VREG", 14 ROSC "I/O for current setting resistor of ramp generator", 15 VREG "4-V regulated output for use by internal cells, GAINx, MUTE, and MSTR/S\L\V\ pins only. Not specified for driving other external circuitry.", 16 VBYP "Reference for preamplifier. Nominally equal to 1.25 V. Also controls start-up time via external capacitor sizing.", 18 BSLP "Bootstrap I/O for left channel, positive high-side FET.", 19 LOUTP (hiz) "Class-D 1/2-H-bridge positive output for left channel.", 20 LOUTP (hiz) "Class-D 1/2-H-bridge positive output for left channel.", 21 LOUTN (hiz) "Class-D 1/2-H-bridge negative output for left channel.", 22 LOUTN (hiz) "Class-D 1/2-H-bridge negative output for left channel.", 23 BSLN "Bootstrap I/O for left channel, negative high-side FET.", 30 VCLAMPL "Internally generated voltage supply for left channel bootstrap capacitor.", 31 VCLAMPR "Internally generated voltage supply for right channel bootstrap capacitor.", 38 BSRN "Bootstrap I/O for right channel, negative high-side FET.", 39 ROUTN (hiz) "Class-D 1/2-H-bridge negative output for right channel.", 40 ROUTN (hiz) "Class-D 1/2-H-bridge negative output for right channel.", 41 ROUTP (hiz) "Class-D 1/2-H-bridge positive output for right channel", 42 ROUTP (hiz) "Class-D 1/2-H-bridge positive output for right channel", 43 BSRP "Bootstrap I/O for right channel, positive high-side FET.", 44 ~{SHUTDOWN} (in) "Shutdown signal for IC (LOW = disabled, HIGH = operational). TTL logic levels with compliance to AVCC.", 45 MUTE (in) "Mute signal for quick disable/enable of outputs (HIGH = outputs high-Z, LOW = outputs enabled). TTL logic levels with compliance to AVCC.", 46 FAULT (hiz) "TTL compatible output. HIGH = short-circuit fault. LOW = no fault. Only reports short-circuit faults. Thermal faults are not reported on this terminal."
part B pins: 1 GND (power) "Connect to the thermal pad.", 4 AGND (power) "Analog ground for digital/analog cells in core.", 12 GND (power) "Connect to the thermal pad.", 13 GND (power) "Connect to the thermal pad.", 17 AGND (power) "Analog ground for digital/analog cells in core.", 24 GND (power) "Connect to the thermal pad.", 25 GND (power) "Connect to the thermal pad.", 26 PVCCL (power) "Power supply for left channel H-bridge, not internally connected to PVCCR or AVCC.", 27 PVCCL (power) "Power supply for left channel H-bridge, not internally connected to PVCCR or AVCC.", 28 PGNDL (power) "Power ground for left channel H-bridge.", 29 PGNDL (power) "Power ground for left channel H-bridge.", 32 PGNDR (power) "Power ground for right channel H-bridge.", 33 PGNDR (power) "Power ground for right channel H-bridge.", 34 PVCCR (power) "Power supply for right channel H-bridge, not connected to PVCCL or AVCC", 35 PVCCR (power) "Power supply for right channel H-bridge, not connected to PVCCL or AVCC", 36 GND (power) "Connect to the thermal pad.", 37 GND (power) "Connect to the thermal pad.", 47 AVCC (power) "High-voltage analog power supply. Not internally connected to PVCCR or PVCCL.", 48 AVCC (power) "High-voltage analog power supply. Not internally connected to PVCCR or PVCCL.", 49 EP (power) "Connect to AGND and PGND - should be star point for both grounds. Internal resistive connection to AGND and PGND. Thermal vias on the PCB should connect this pad to a large copper area on an internal or bottom layer for the (See Datasheet)"

## TPA3101D2PHPRG4
designator U?
10 W Stereo Class-D Audio Power Amplifier, -40 to 85 degC, 48-pin QFP (PHP48), Green (RoHS & no Sb/Br); Manufacturer: Texas Instruments; PartNumber: TPA3101D2PHPRG4; Analog Supply Max [V]: 26; Analog Supply Min [V]: 10; Input Type: Analog; Max. Number of Speaker Outputs: 2; SubFamily: Mid/High-Power Amplifier; DatasheetVersion: SLOS473C; PackageVersion: 4146927/B, 08/2003; PackageReference: PHP48-4520X4520TP; PackageDescription: 48-Pin PowerPAD(TM) Plastic Quad Flatpack, Body 7 x 7 mm, Pitch 0.5 mm; Supplier 1: Digi-Key; Supplier Part Number 1: TPA3101D2PHPRG4-ND; Supplier 2: Mouser; Supplier Part Number 2: 595-TPA3101D2PHPRG4; Eco-Plan: Green (RoHS & no Sb/Br); Power Stage Supply Min(V): 10; Mounting Technology: Surface Mount; Code_JEDEC: MS-026; ComponentLink1Description: Manufacturer URL; ComponentLink1URL: http://www.ti.com/; ComponentLink2Description: Datasheet; ComponentLink2URL: http://www.ti.com/general/docs/lit/getliterature.tsp?genericPartNumber=TPA3101D2&fileType=pdf; ComponentLink3Description: Package Specification; ComponentLink3URL: http://www.ti.com/litv/pdf/mpqf051a
footprint TI-PHP48-4520X4520TP_N (QFP, 48-Leads, Body 7x7mm, Pitch 0.5mm, Thermal Pad 5.14x5.14mm, IPC Medium Density)
footprint TI-PHP48-4520X4520TP_L (QFP, 48-Leads, Body 7x7mm, Pitch 0.5mm, Thermal Pad 5.14x5.14mm, IPC High Density)
footprint TI-PHP48-4520X4520TP_M (QFP, 48-Leads, Body 7x7mm, Pitch 0.5mm, Thermal Pad 5.14x5.14mm, IPC Low Density)
part A pins: 2 RINN (in) "Negative audio input for right channel. Biased at VREG/2.", 3 RINP (in) "Positive audio input for right channel. Biased at VREG/2.", 5 LINP (in) "Positive audio input for left channel. Biased at VREG/2.", 6 LINN (in) "Negative audio input for left channel. Biased at VREG/2.", 7 GAIN0 (in) "Gain select least significant bit. TTL logic levels with compliance to VREG.", 8 GAIN0 (in) "Gain select least significant bit. TTL logic levels with compliance to VREG.", 9 GAIN1 (in) "Gain select least significant bit. TTL logic levels with compliance to VREG.", 10 MSTR/~{SLV} (in) "Master/Slave select for determining direction of SYNC terminal.HIGH=Master mode, SYNC terminal is an output; LOW = slave mode, SYNC terminal accepts a clock input. TTL logic levels with compliance to VREG.", 11 SYNC (io) "Clock input/output for synchronizing multiple class-D devices. Direction determined by MSTR/S\L\V\ terminal. Input signal not to exceed VREG", 14 ROSC "I/O for current setting resistor of ramp generator", 15 VREG "4-V regulated output for use by internal cells, GAINx, MUTE, and MSTR/S\L\V\ pins only. Not specified for driving other external circuitry.", 16 VBYP "Reference for preamplifier. Nominally equal to 1.25 V. Also controls start-up time via external capacitor sizing.", 18 BSLP "Bootstrap I/O for left channel, positive high-side FET.", 19 LOUTP (hiz) "Class-D 1/2-H-bridge positive output for left channel.", 20 LOUTP (hiz) "Class-D 1/2-H-bridge positive output for left channel.", 21 LOUTN (hiz) "Class-D 1/2-H-bridge negative output for left channel.", 22 LOUTN (hiz) "Class-D 1/2-H-bridge negative output for left channel.", 23 BSLN "Bootstrap I/O for left channel, negative high-side FET.", 30 VCLAMPL "Internally generated voltage supply for left channel bootstrap capacitor.", 31 VCLAMPR "Internally generated voltage supply for right channel bootstrap capacitor.", 38 BSRN "Bootstrap I/O for right channel, negative high-side FET.", 39 ROUTN (hiz) "Class-D 1/2-H-bridge negative output for right channel.", 40 ROUTN (hiz) "Class-D 1/2-H-bridge negative output for right channel.", 41 ROUTP (hiz) "Class-D 1/2-H-bridge positive output for right channel", 42 ROUTP (hiz) "Class-D 1/2-H-bridge positive output for right channel", 43 BSRP "Bootstrap I/O for right channel, positive high-side FET.", 44 ~{SHUTDOWN} (in) "Shutdown signal for IC (LOW = disabled, HIGH = operational). TTL logic levels with compliance to AVCC.", 45 MUTE (in) "Mute signal for quick disable/enable of outputs (HIGH = outputs high-Z, LOW = outputs enabled). TTL logic levels with compliance to AVCC.", 46 FAULT (hiz) "TTL compatible output. HIGH = short-circuit fault. LOW = no fault. Only reports short-circuit faults. Thermal faults are not reported on this terminal."
part B pins: 1 GND (power) "Connect to the thermal pad.", 4 AGND (power) "Analog ground for digital/analog cells in core.", 12 GND (power) "Connect to the thermal pad.", 13 GND (power) "Connect to the thermal pad.", 17 AGND (power) "Analog ground for digital/analog cells in core.", 24 GND (power) "Connect to the thermal pad.", 25 GND (power) "Connect to the thermal pad.", 26 PVCCL (power) "Power supply for left channel H-bridge, not internally connected to PVCCR or AVCC.", 27 PVCCL (power) "Power supply for left channel H-bridge, not internally connected to PVCCR or AVCC.", 28 PGNDL (power) "Power ground for left channel H-bridge.", 29 PGNDL (power) "Power ground for left channel H-bridge.", 32 PGNDR (power) "Power ground for right channel H-bridge.", 33 PGNDR (power) "Power ground for right channel H-bridge.", 34 PVCCR (power) "Power supply for right channel H-bridge, not connected to PVCCL or AVCC", 35 PVCCR (power) "Power supply for right channel H-bridge, not connected to PVCCL or AVCC", 36 GND (power) "Connect to the thermal pad.", 37 GND (power) "Connect to the thermal pad.", 47 AVCC (power) "High-voltage analog power supply. Not internally connected to PVCCR or PVCCL.", 48 AVCC (power) "High-voltage analog power supply. Not internally connected to PVCCR or PVCCL.", 49 EP (power) "Connect to AGND and PGND - should be star point for both grounds. Internal resistive connection to AGND and PGND. Thermal vias on the PCB should connect this pad to a large copper area on an internal or bottom layer for the (See Datasheet)"